# Altium schematic symbol library LMS7002M.SchLib: 2 symbols
Pins are listed as number, name and electrical type; pins without a type are passive.

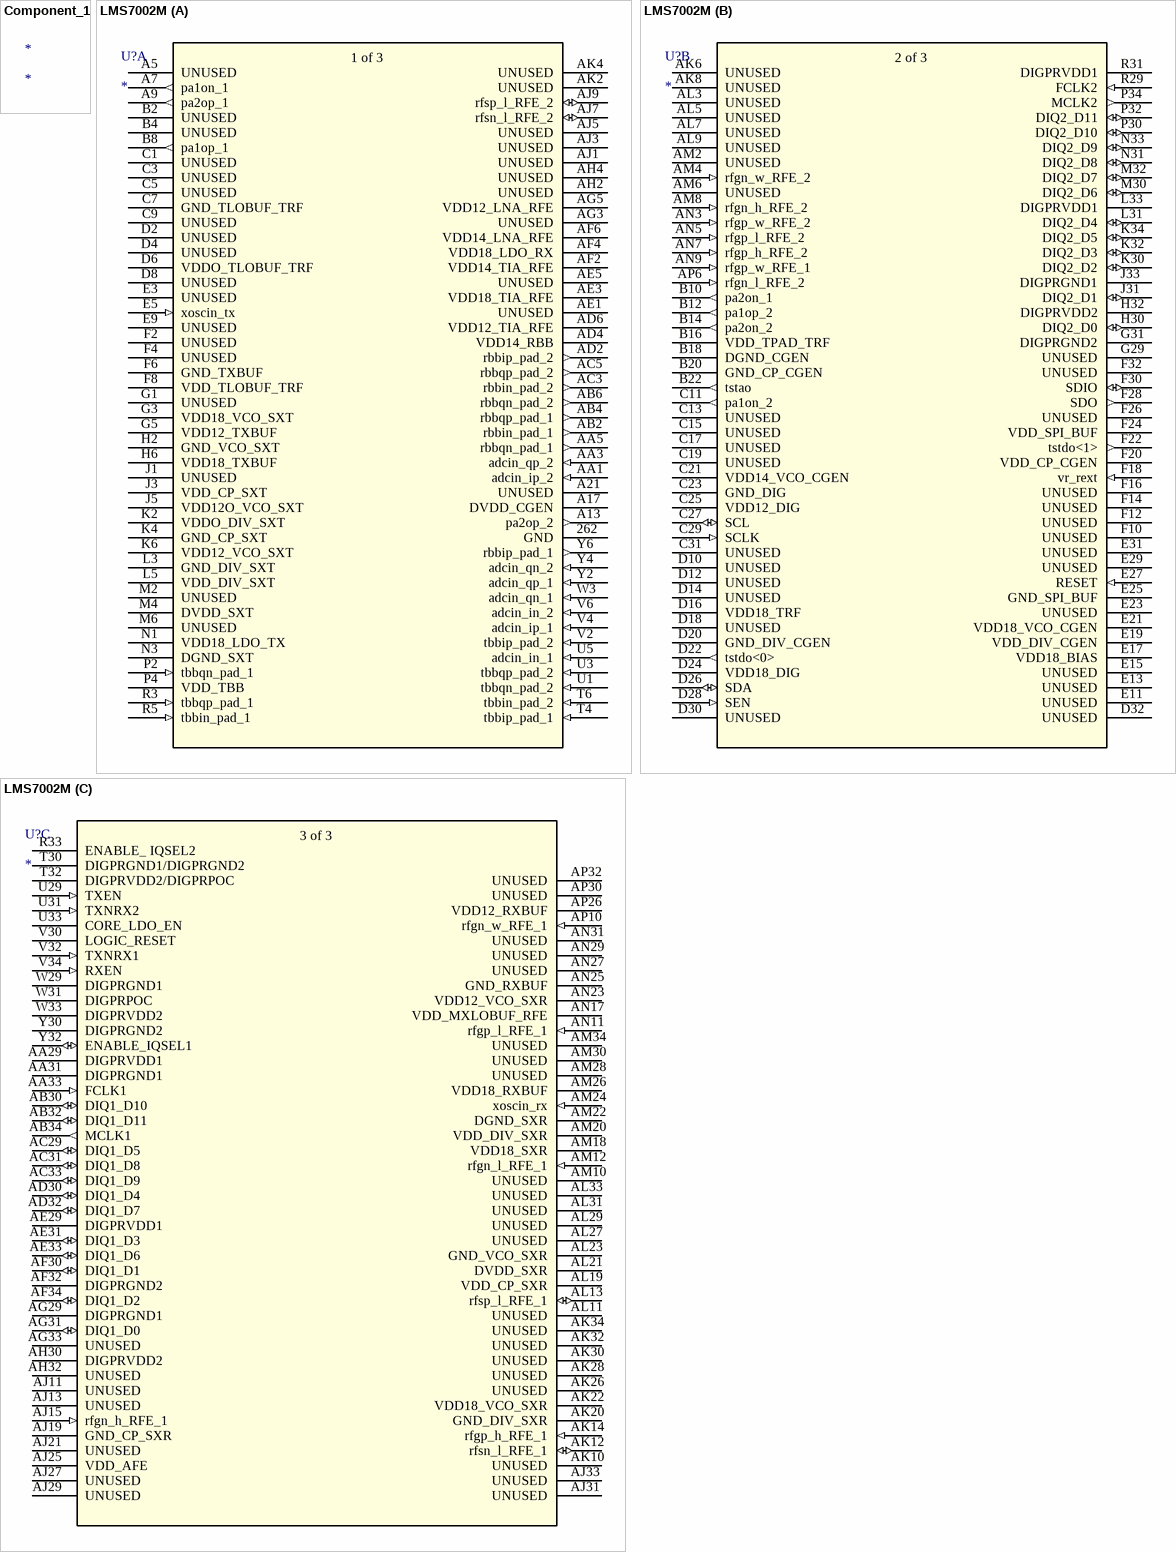
[diagram p0: symbols Component_1 to LMS7002M]

## Component_1
designator *

## LMS7002M
designator U?
No Description Available; Mfr_Name: Lime Microsystems; RefDes: RefDes; Type: Type
footprint AQFN261_11P5X11P5_LIM
part A pins: 262 GND (power), A5 UNUSED, A7 pa1on_1 (out), A9 pa2op_1 (out), A13 pa2op_2 (out), A17 DVDD_CGEN (power), A21 UNUSED, AA1 adcin_ip_2 (in), AA3 adcin_qp_2 (in), AA5 rbbqn_pad_1 (out), AB2 rbbin_pad_1 (out), AB4 rbbqp_pad_1 (out), AB6 rbbqn_pad_2 (out), AC3 rbbin_pad_2 (out), AC5 rbbqp_pad_2 (out), AD2 rbbip_pad_2 (out), AD4 VDD14_RBB (power), AD6 VDD12_TIA_RFE (power), AE1 UNUSED, AE3 VDD18_TIA_RFE (power), AE5 UNUSED, AF2 VDD14_TIA_RFE (power), AF4 VDD18_LDO_RX (power), AF6 VDD14_LNA_RFE (power), AG3 UNUSED, AG5 VDD12_LNA_RFE (power), AH2 UNUSED, AH4 UNUSED, AJ1 UNUSED, AJ3 UNUSED, AJ5 UNUSED, AJ7 rfsn_l_RFE_2 (io), AJ9 rfsp_l_RFE_2 (io), AK2 UNUSED, AK4 UNUSED, B2 UNUSED, B4 UNUSED, B8 pa1op_1 (out), C1 UNUSED, C3 UNUSED, C5 UNUSED, C7 GND_TLOBUF_TRF (power), C9 UNUSED, D2 UNUSED, D4 UNUSED, D6 VDDO_TLOBUF_TRF (power), D8 UNUSED, E3 UNUSED, E5 xoscin_tx (in), E9 UNUSED, F2 UNUSED, F4 UNUSED, F6 GND_TXBUF (power), F8 VDD_TLOBUF_TRF (power), G1 UNUSED, G3 VDD18_VCO_SXT (power), G5 VDD12_TXBUF (power), H2 GND_VCO_SXT (power), H6 VDD18_TXBUF (power), J1 UNUSED, J3 VDD_CP_SXT (power), J5 VDD12O_VCO_SXT (power), K2 VDDO_DIV_SXT (power), K4 GND_CP_SXT (power), K6 VDD12_VCO_SXT (power), L3 GND_DIV_SXT (power), L5 VDD_DIV_SXT (power), M2 UNUSED, M4 DVDD_SXT (power), M6 UNUSED, N1 VDD18_LDO_TX (power), N3 DGND_SXT (power), P2 tbbqn_pad_1 (in), P4 VDD_TBB (power), R3 tbbqp_pad_1 (in), R5 tbbin_pad_1 (in), T4 tbbip_pad_1 (in), T6 tbbin_pad_2 (in), U1 tbbqn_pad_2 (in), U3 tbbqp_pad_2 (in), U5 adcin_in_1 (in), V2 tbbip_pad_2 (in), V4 adcin_ip_1 (in), V6 adcin_in_2 (in), W3 adcin_qn_1 (in), Y2 adcin_qp_1 (in), Y4 adcin_qn_2 (in), Y6 rbbip_pad_1 (out)
part B pins: AK6 UNUSED, AK8 UNUSED, AL3 UNUSED, AL5 UNUSED, AL7 UNUSED, AL9 UNUSED, AM2 UNUSED, AM4 rfgn_w_RFE_2 (in), AM6 UNUSED, AM8 rfgn_h_RFE_2 (in), AN3 rfgp_w_RFE_2 (in), AN5 rfgp_l_RFE_2 (in), AN7 rfgp_h_RFE_2 (in), AN9 rfgp_w_RFE_1 (in), AP6 rfgn_l_RFE_2 (in), B10 pa2on_1 (out), B12 pa1op_2 (out), B14 pa2on_2 (out), B16 VDD_TPAD_TRF (power), B18 DGND_CGEN (power), B20 GND_CP_CGEN (power), B22 tstao (out), C11 pa1on_2 (out), C13 UNUSED, C15 UNUSED, C17 UNUSED, C19 UNUSED, C21 VDD14_VCO_CGEN (power), C23 GND_DIG (power), C25 VDD12_DIG (power), C27 SCL (io), C29 SCLK (in), C31 UNUSED, D10 UNUSED, D12 UNUSED, D14 UNUSED, D16 VDD18_TRF (power), D18 UNUSED, D20 GND_DIV_CGEN (power), D22 tstdo<0> (out), D24 VDD18_DIG (power), D26 SDA (io), D28 SEN (in), D30 UNUSED, D32 UNUSED, E11 UNUSED, E13 UNUSED, E15 UNUSED, E17 VDD18_BIAS (power), E19 VDD_DIV_CGEN (power), E21 VDD18_VCO_CGEN (power), E23 UNUSED, E25 GND_SPI_BUF (power), E27 RESET (in), E29 UNUSED, E31 UNUSED, F10 UNUSED, F12 UNUSED, F14 UNUSED, F16 UNUSED, F18 vr_rext (in), F20 VDD_CP_CGEN (power), F22 tstdo<1> (out), F24 VDD_SPI_BUF (power), F26 UNUSED, F28 SDO (out), F30 SDIO (io), F32 UNUSED, G29 UNUSED, G31 DIGPRGND2 (power), H30 DIQ2_D0 (io), H32 DIGPRVDD2 (power), J31 DIQ2_D1 (io), J33 DIGPRGND1 (power), K30 DIQ2_D2 (io), K32 DIQ2_D3 (io), K34 DIQ2_D5 (io), L31 DIQ2_D4 (io), L33 DIGPRVDD1 (power), M30 DIQ2_D6 (io), M32 DIQ2_D7 (io), N31 DIQ2_D8 (io), N33 DIQ2_D9 (io), P30 DIQ2_D10 (io), P32 DIQ2_D11 (io), P34 MCLK2 (out), R29 FCLK2 (in), R31 DIGPRVDD1 (power)
part C pins: AA29 DIGPRVDD1 (power), AA31 DIGPRGND1 (power), AA33 FCLK1 (in), AB30 DIQ1_D10 (io), AB32 DIQ1_D11 (io), AB34 MCLK1 (out), AC29 DIQ1_D5 (io), AC31 DIQ1_D8 (io), AC33 DIQ1_D9 (io), AD30 DIQ1_D4 (io), AD32 DIQ1_D7 (io), AE29 DIGPRVDD1 (power), AE31 DIQ1_D3 (io), AE33 DIQ1_D6 (io), AF30 DIQ1_D1 (io), AF32 DIGPRGND2 (power), AF34 DIQ1_D2 (io), AG29 DIGPRGND1 (power), AG31 DIQ1_D0 (io), AG33 UNUSED, AH30 DIGPRVDD2 (power), AH32 UNUSED, AJ11 UNUSED, AJ13 UNUSED, AJ15 rfgn_h_RFE_1 (in), AJ19 GND_CP_SXR (power), AJ21 UNUSED, AJ25 VDD_AFE (power), AJ27 UNUSED, AJ29 UNUSED, AJ31 UNUSED, AJ33 UNUSED, AK10 UNUSED, AK12 rfsn_l_RFE_1 (io), AK14 rfgp_h_RFE_1 (in), AK20 GND_DIV_SXR (power), AK22 VDD18_VCO_SXR (power), AK26 UNUSED, AK28 UNUSED, AK30 UNUSED, AK32 UNUSED, AK34 UNUSED, AL11 UNUSED, AL13 rfsp_l_RFE_1 (io), AL19 VDD_CP_SXR (power), AL21 DVDD_SXR (power), AL23 GND_VCO_SXR (power), AL27 UNUSED, AL29 UNUSED, AL31 UNUSED, AL33 UNUSED, AM10 UNUSED, AM12 rfgn_l_RFE_1 (in), AM18 VDD18_SXR (power), AM20 VDD_DIV_SXR (power), AM22 DGND_SXR (power), AM24 xoscin_rx (in), AM26 VDD18_RXBUF (power), AM28 UNUSED, AM30 UNUSED, AM34 UNUSED, AN11 rfgp_l_RFE_1 (in), AN17 VDD_MXLOBUF_RFE (power), AN23 VDD12_VCO_SXR (power), AN25 GND_RXBUF (power), AN27 UNUSED, AN29 UNUSED, AN31 UNUSED, AP10 rfgn_w_RFE_1 (in), AP26 VDD12_RXBUF (power), AP30 UNUSED, AP32 UNUSED, R33 ENABLE_ IQSEL2, T30 DIGPRGND1/DIGPRGND2 (power), T32 DIGPRVDD2/DIGPRPOC (power), U29 TXEN (in), U31 TXNRX2 (in), U33 CORE_LDO_EN (power), V30 LOGIC_RESET, V32 TXNRX1 (in), V34 RXEN (in), W29 DIGPRGND1 (power), W31 DIGPRPOC, W33 DIGPRVDD2 (power), Y30 DIGPRGND2 (power), Y32 ENABLE_IQSEL1 (io)
part A text: 1 of 3
part B text: 2 of 3
part C text: 3 of 3